# EAGLE library part LM34919 (library Bits_library_eagle 9x)
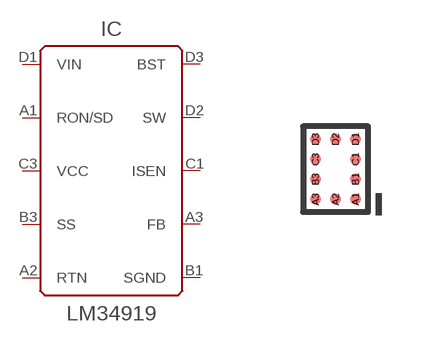
[diagram p49: symbol with the pads of DSBGA-10; footprint DSBGA-10]

Designator prefix IC

## LM34919  [DSBGA-10]
A1  RON/SD
A2  RTN
A3  FB
B1  SGND  pwr
B3  SS
C1  ISEN  pas
C3  VCC  pwr
D1  VIN  pwr
D2  SW  pas
D3  BST  pas

## Footprint DSBGA-10 (pad centres in mm)
smd 0.275 x 0.275: A1 0.5,-0.75; A2 0,-0.75; A3 -0.5,-0.75; B1 0.5,-0.25; B3 -0.5,-0.25; C1 0.5,0.25; C3 -0.5,0.25; D1 0.5,0.75; D2 0,0.75; D3 -0.5,0.75